# EAGLE library part MAX3051ESA (library MAX3051ESA)
Can bus transciever Datasheet: http://datasheets.maximintegrated.com/en/ds/MAX3051.pdf
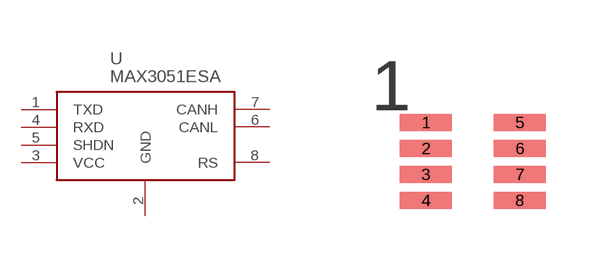
[diagram p0: symbol with the pads of 8-SOICN; footprint 8-SOICN]

Designator prefix U

## MAX3051ESA (Availability: Good; Description: IC TXRX CAN 1MBPS 8-SOIC; MF: Maxim Integrated; MP: MAX3051ESA+; Package: SOIC-8 Maxim Integrated; Price: 2.18 USD)  [8-SOICN]
1  TXD
2  GND
3  VCC
4  RXD
5  SHDN
6  CANL
7  CANH
8  RS

## Footprint 8-SOICN (pad centres in mm)
Can Bus Transceiver
smd 1.3 x 0.42: 1 -1.175,0.975; 2 -1.175,0.325; 3 -1.174,-0.325; 4 -1.175,-0.975; 5 1.175,0.975; 6 1.175,0.325; 7 1.174,-0.325; 8 1.175,-0.975